# EAGLE library part AD712 (library Gemelke_Lab)
Precision Dual Opamp
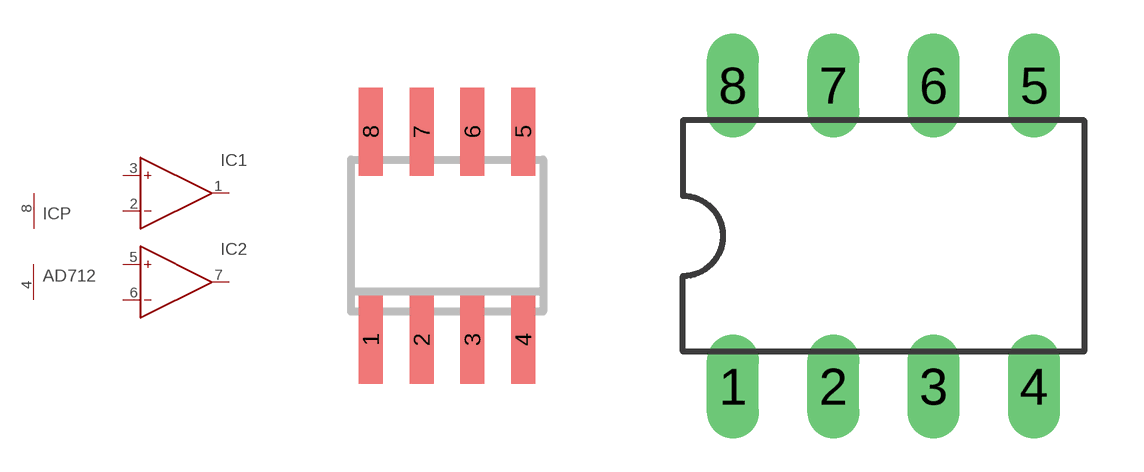
[diagram p3: symbol with the pads of SOIC8; footprints SOIC8, DIL08]

Designator prefix IC; gates 1=OPAMP 2=OPAMP P=PWR+-

## AD712SOIC  [SOIC8]
1  1:OUT  out
2  1:IN-  in
3  1:IN+  in
4  P:V-  pwr
5  2:IN+  in
6  2:IN-  in
7  2:OUT  out
8  P:V+  pwr

## AD712DIL  [DIL08]
Pads as for SOIC8

## Footprint SOIC8 (pad centres in mm)
Small Outline IC
smd 0.6 x 2.2: 1 -1.905,-2.6; 2 -0.635,-2.6; 3 0.635,-2.6; 4 1.905,-2.6; 5 1.905,2.6; 6 0.635,2.6; 7 -0.635,2.6; 8 -1.905,2.6

## Footprint DIL08 (pad centres in mm)
Dual In Line Package
drill 0.813 long: 1 -3.81,-3.81; 2 -1.27,-3.81; 3 1.27,-3.81; 4 3.81,-3.81; 5 3.81,3.81; 6 1.27,3.81; 7 -1.27,3.81; 8 -3.81,3.81